# Altium schematic symbol library SymbolsStd.SchLib: 19 symbols
Pins are listed as number, name and electrical type; pins without a type are passive.

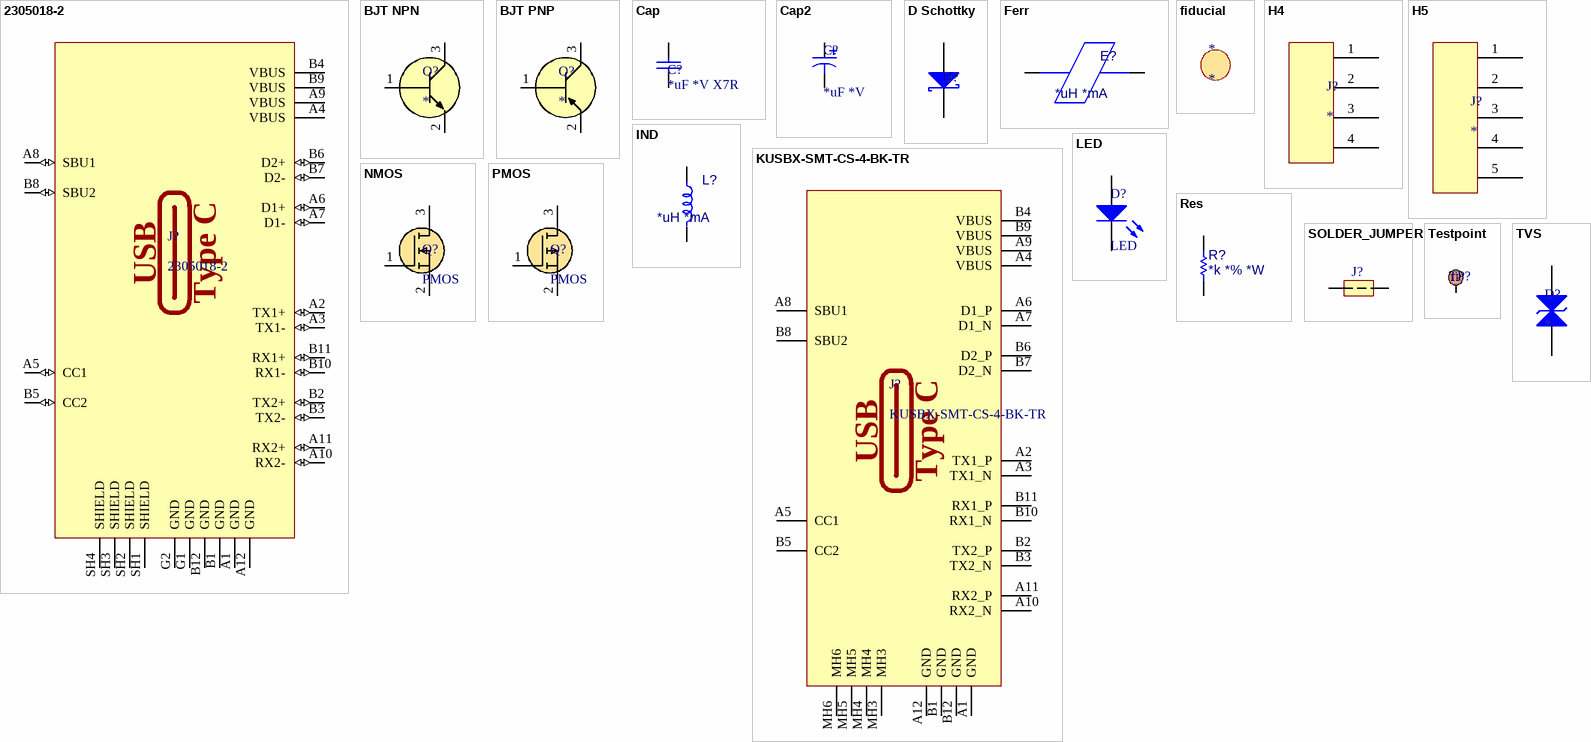
[diagram p0: symbols 2305018-2 to TVS]

## 2305018-2
designator J?
USB-C Connector; Package: None; Price: None; Value: *; MP: 2305018-2; Availability: Unavailable; ComponentLink1Description: Datasheet; ComponentLink1URL: https://www.mouser.com/datasheet/2/418/7/ENG_CD_2305018_A2-2032147.pdf; ComponentLink2Description: Mouser; ComponentLink2URL: https://www.mouser.com/ProductDetail/TE-Connectivity/2305018-2?qs=EU6FO9ffTwfL23TDwkN0SQ%3D%3D&srsltid=AfmBOorpnX8_A-FVY9VeDsuKQSOdku3ZyfhTg3lqTKVgI1_QsgULVFnE
footprint TE_2305018-2
pins: A1 GND (power), A2 TX1+ (io), A3 TX1- (io), A4 VBUS (power), A5 CC1 (io), A6 D1+ (io), A7 D1- (io), A8 SBU1 (io), A9 VBUS (power), A10 RX2- (io), A11 RX2+ (io), A12 GND (power), B1 GND (power), B2 TX2+ (io), B3 TX2- (io), B4 VBUS (power), B5 CC2 (io), B6 D2+ (io), B7 D2- (io), B8 SBU2 (io), B9 VBUS (power), B10 RX1- (io), B11 RX1+ (io), B12 GND (power), G1 GND (power), G2 GND (power), SH1 SHIELD, SH2 SHIELD, SH3 SHIELD, SH4 SHIELD
text: USB; Type C

## BJT NPN
designator Q?
Transistor BJT PNP
pins: 1 B, 2 E, 3 C

## BJT PNP
designator Q?
Transistor BJT PNP
pins: 1 B, 2 E, 3 C

## Cap
designator C?, comment *uF *V X7R
Capacitor; MPN: *; Manufacturer: *; Package: *; Price (USD): *; ComponentLink2Description: SupplierLink; ComponentLink1Description: Datasheet; ComponentLink2URL: *; ComponentLink1URL: *
pins: 1, 2

## Cap2
designator C?, comment *uF *V
Polarized Capacitor; MPN: *; Manufacturer: *; Package: *; Price (USD): *; ComponentLink1Description: Datasheet; ComponentLink1URL: *; ComponentLink2Description: SupplierLink; ComponentLink2URL: *; Value: *
pins: 1, 2

## D Schottky
designator D?, comment Schottky Diode  (value not drawn)
ComponentLink1Description: Datasheet; ComponentLink2Description: SupplierLink
pins: 1 K, 2 A

## Ferr
designator E?, comment *uH *mA
Ferrite; Manufacturer: *; MPN: *; Package: *; Price (USD): *; Value: *; ComponentLink1Description: Datasheet; ComponentLink1URL: *; ComponentLink2Description: SupplierLink; ComponentLink2URL: *
pins: 1, 2

## fiducial
designator *
footprint FIDUCIAL

## H4
designator J?
Pin Header 4-Pin
footprint H4 (Header 4-Pin)
pins: 1, 2, 3, 4

## H5
designator J?
Pin Header 5-Pin
footprint H5 (Header 5-Pin)
pins: 1, 2, 3, 4, 5

## IND
designator L?, comment *uH *mA
Inductor; Manufacturer: *; MPN: *; Package: *; Price (USD): *; ComponentLink1Description: Datasheet; ComponentLink1URL: *; ComponentLink2Description: SupplierLink; ComponentLink2URL: *
pins: 1, 2

## KUSBX-SMT-CS-4-BK-TR
designator J?
USB-C Connector; Manufacturer_Name: Kycon; Datasheet Link: https://www.kycon.com/Pub_Eng_Draw/KUSBX-SMT-CS-4-BK-xxTR.pdf; Height: 3.56mm; Manufacturer_Part_Number: KUSBX-SMT-CS-4-BK-TR; Mouser Part Number: 806-KUSBX-SMTCS4BKTR; Mouser Price/Stock: https://www.mouser.co.uk/ProductDetail/Kycon/KUSBX-SMT-CS-4-BK-TR?qs=vvQtp7zwQdMngGj1HUt%252BlA%3D%3D
footprint KUSBXSMTCS4BKTR
pins: A1 GND, A2 TX1_P, A3 TX1_N, A4 VBUS, A5 CC1, A6 D1_P, A7 D1_N, A8 SBU1, A9 VBUS, A10 RX2_N, A11 RX2_P, A12 GND, B1 GND, B2 TX2_P, B3 TX2_N, B4 VBUS, B5 CC2, B6 D2_P, B7 D2_N, B8 SBU2, B9 VBUS, B10 RX1_N, B11 RX1_P, B12 GND, MH3, MH4, MH5, MH6
text: USB; Type C

## LED
designator D?
ComponentLink1Description: Datasheet; ComponentLink2Description: SupplierLink
pins: 1 A, 2 K

## NMOS
designator Q?, comment PMOS
MOSFET (N-Channel); ComponentLink1Description: Mouser; ComponentLink1URL: *; ComponentLink2Description: Datasheet; ComponentLink2URL: *
pins: 1 G, 2 S, 3 D

## PMOS
designator Q?
MOSFET (P-Channel); ComponentLink1Description: Mouser; ComponentLink1URL: *; ComponentLink2Description: Datasheet; ComponentLink2URL: *
pins: 1 G, 2 S, 3 D

## Res
designator R?, comment *k *% *W
Resistor; Manufacturer: *; MPN: *; Package: *; Price (USD): *; ComponentLink1Description: Datasheet; ComponentLink1URL: *; ComponentLink2Description: SupplierLink; ComponentLink2URL: *
pins: 1, 2

## SOLDER_JUMPER
designator J?  (value not drawn)
pins: 1 158, 2 1

## Testpoint
designator TP?, comment Single Pin Test Point  (value not drawn)  (no BOM)
ComponentLink1Description: Datasheet; ComponentLink2Description: SupplierLink
footprint testpoint_SMD
pins: 0
text: TP

## TVS
designator D?
TVS
pins: 1, 2